# Altium integrated library ON Semi Schottky Diodes & Schottky Rectifiers.IntLib: 755 symbols (part 10 of 17)
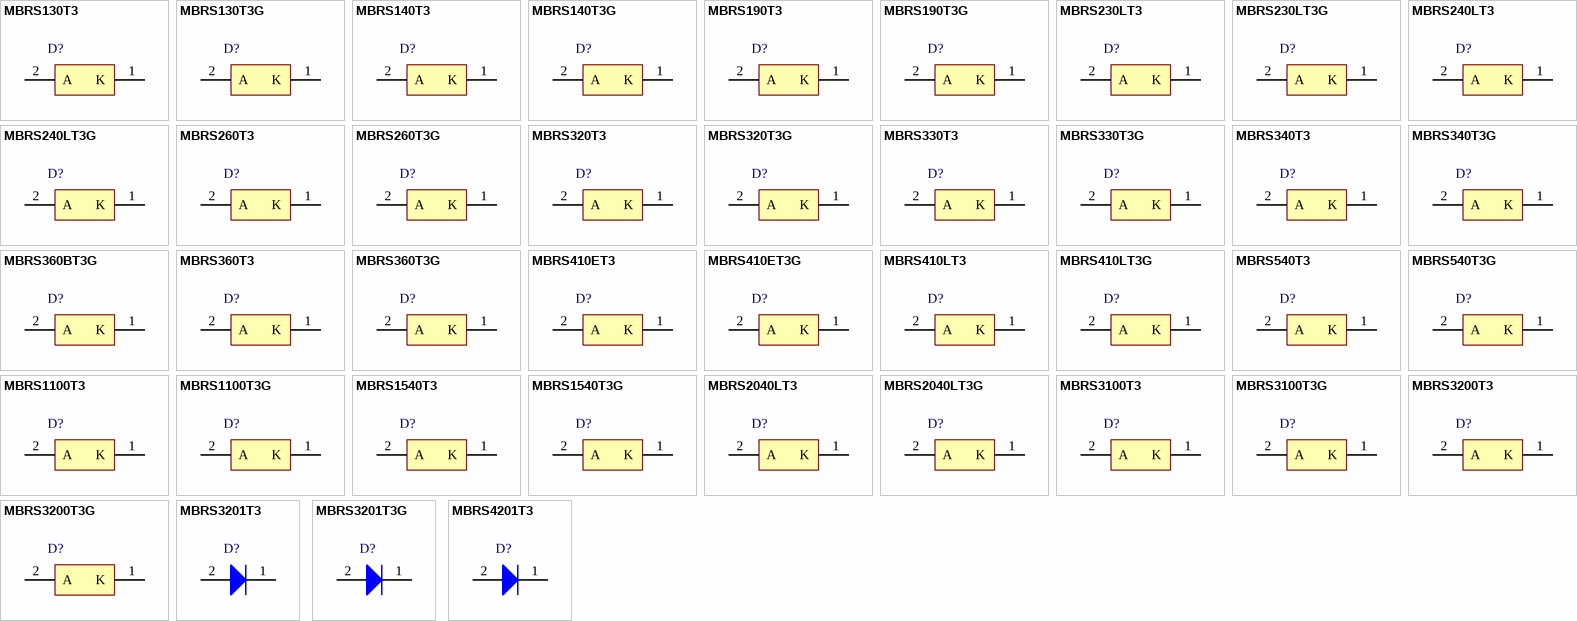
[diagram p28: symbols MBRS130T3 to MBRS4201T3]

## MBRS1540T3G
designator D?
Schottky Power Rectifier, 2-Pin SMB, Pb-Free, Tape and Reel; Manufacturer: On Semiconductor; PartNumber: MBRS1540T3G; Configuration: Single; IFSM Max (A): 40; DatasheetVersion: Rev. 3; PackageVersion: Rev. E, 08/2005; PackageReference: SMB-2-403A-03_E; PackageDescription: 2-Pin Small Molded Package, J-Bend Lead, Body 4.315 x 3.555 mm; Supplier 1: Digi-Key; Supplier Part Number 1: MBRS1540T3GOSTR-ND; Supplier 2: Digi-Key; Supplier Part Number 2: MBRS1540T3GOSCT-ND; Supplier 3: Digi-Key; Supplier Part Number 3: MBRS1540T3GOSDKR-ND; Supplier 4: Farnell; Supplier Part Number 4: 2372921; Supplier 5: Newark; Supplier Part Number 5: 10N9420; Supplier 6: Newark; Supplier Part Number 6: 98H0596; Supplier 7: Mouser; Supplier Part Number 7: 863-MBRS1540T3G; Packing: Tape and Reel; RoHS: TRUE; Mounting Technology: Surface Mount; ComponentLink1Description: Manufacturer URL; ComponentLink1URL: http://www.onsemi.com/; ComponentLink2Description: Datasheet; ComponentLink2URL: http://www.onsemi.cn/pub_link/Collateral/MBRS1540T3-D.PDF; ComponentLink3Description: Package Specification; ComponentLink3URL: http://www.onsemi.cn/pub_link/Collateral/MBRS1540T3-D.PDF
footprint ONSC-SMB-2-403A-03_E_V (Molded, 2-Leads, Body 4.57x3.81mm)
pins: 1 K, 2 A

## MBRS2040LT3
designator D?
Schottky Power Rectifier, 2-Pin SMB, Tape and Reel; Manufacturer: On Semiconductor; PartNumber: MBRS2040LT3; Configuration: Single; IFSM Max (A): 70; DatasheetVersion: Rev. 4; PackageVersion: Rev. H, 05/2011; PackageReference: SMB-2-403A-03_H; PackageDescription: 2-Pin Small Molded Package, J-Bend Lead, Body 4.33 x 3.625 mm; Supplier 1: Digi-Key; Supplier Part Number 1: MBRS2040LT3OSCT-ND; Supplier 2: Digi-Key; Supplier Part Number 2: MBRS2040LT3OSDKR-ND; Packing: Tape and Reel; RoHS: FALSE; Mounting Technology: Surface Mount; ComponentLink1Description: Manufacturer URL; ComponentLink1URL: http://www.onsemi.com/; ComponentLink2Description: Datasheet; ComponentLink2URL: http://www.onsemi.cn/pub_link/Collateral/MBRS2040LT3-D.PDF; ComponentLink3Description: Package Specification; ComponentLink3URL: http://www.onsemi.com/pub_link/Collateral/1SMB5913BT3-D.PDF
footprint ONSC-SMB-2-403A-03_H_V (Molded, 2-Leads, Body 4.6x3.95mm)
pins: 1 K, 2 A

## MBRS2040LT3G
designator D?
Schottky Power Rectifier, 2-Pin SMB, Pb-Free, Tape and Reel; Manufacturer: On Semiconductor; PartNumber: MBRS2040LT3G; Configuration: Single; IFSM Max (A): 70; DatasheetVersion: Rev. 4; PackageVersion: Rev. H, 05/2011; PackageReference: SMB-2-403A-03_H; PackageDescription: 2-Pin Small Molded Package, J-Bend Lead, Body 4.33 x 3.625 mm; Supplier 1: Digi-Key; Supplier Part Number 1: MBRS2040LT3GOSTR-ND; Supplier 2: Digi-Key; Supplier Part Number 2: MBRS2040LT3GOSCT-ND; Supplier 3: Digi-Key; Supplier Part Number 3: MBRS2040LT3GOSDKR-ND; Supplier 4: Farnell; Supplier Part Number 4: 1459072; Supplier 5: Farnell; Supplier Part Number 5: 1459072RL; Supplier 6: Farnell; Supplier Part Number 6: 2317674; Supplier 7: Newark; Supplier Part Number 7: 67R1314; Supplier 8: Newark; Supplier Part Number 8: 88H4677; Supplier 9: Mouser; Supplier Part Number 9: 863-MBRS2040LT3G; Packing: Tape and Reel; RoHS: TRUE; Mounting Technology: Surface Mount; ComponentLink1Description: Manufacturer URL; ComponentLink1URL: http://www.onsemi.com/; ComponentLink2Description: Datasheet; ComponentLink2URL: http://www.onsemi.cn/pub_link/Collateral/MBRS2040LT3-D.PDF; ComponentLink3Description: Package Specification; ComponentLink3URL: http://www.onsemi.com/pub_link/Collateral/1SMB5913BT3-D.PDF
footprint ONSC-SMB-2-403A-03_H_V (Molded, 2-Leads, Body 4.6x3.95mm)
pins: 1 K, 2 A

## MBRS3100T3
designator D?
Schottky Power Rectifier, 2-Pin SMC, Tape and Reel; Manufacturer: On Semiconductor; PartNumber: MBRS3100T3; Configuration: Single; IFSM Max (A): 130; DatasheetVersion: Rev. 4; PackageVersion: Rev. E, 08/2005; PackageReference: SMC-2-403-03; PackageDescription: 2-Pin Small Molded Package, J-Bend Lead, Body 5.845 x 6.855 mm; Supplier 1: Digi-Key; Supplier Part Number 1: MBRS3100T3OSTR-ND; Supplier 2: Digi-Key; Supplier Part Number 2: MBRS3100T3OSCT-ND; Packing: Tape and Reel; RoHS: FALSE; Mounting Technology: Surface Mount; ComponentLink1Description: Manufacturer URL; ComponentLink1URL: http://www.onsemi.com/; ComponentLink2Description: Datasheet; ComponentLink2URL: http://www.onsemi.cn/pub_link/Collateral/MBRS3100T3-D.PDF; ComponentLink3Description: Package Specification; ComponentLink3URL: http://www.onsemi.com/pub_link/Collateral/403-03.PDF
footprint ONSC-SMC-2-403-03_V (Molded, 2-Leads, Body 6.86x5.84mm)
pins: 1 K, 2 A

## MBRS3100T3G
designator D?
Schottky Power Rectifier, 2-Pin SMC, Pb-Free, Tape and Reel; Manufacturer: On Semiconductor; PartNumber: MBRS3100T3G; Configuration: Single; IFSM Max (A): 130; DatasheetVersion: Rev. 4; PackageVersion: Rev. E, 08/2005; PackageReference: SMC-2-403-03; PackageDescription: 2-Pin Small Molded Package, J-Bend Lead, Body 5.845 x 6.855 mm; Supplier 1: Digi-Key; Supplier Part Number 1: MBRS3100T3GOSTR-ND; Supplier 2: Digi-Key; Supplier Part Number 2: MBRS3100T3GOSCT-ND; Supplier 3: Digi-Key; Supplier Part Number 3: MBRS3100T3GOSDKR-ND; Supplier 4: Farnell; Supplier Part Number 4: 1459075RL; Supplier 5: Farnell; Supplier Part Number 5: 1459075; Supplier 6: Farnell; Supplier Part Number 6: 2317663; Supplier 7: Newark; Supplier Part Number 7: 67R1316; Supplier 8: Newark; Supplier Part Number 8: 45J0793; Supplier 9: Mouser; Supplier Part Number 9: 863-MBRS3100T3G; Packing: Tape and Reel; RoHS: TRUE; Mounting Technology: Surface Mount; ComponentLink1Description: Manufacturer URL; ComponentLink1URL: http://www.onsemi.com/; ComponentLink2Description: Datasheet; ComponentLink2URL: http://www.onsemi.cn/pub_link/Collateral/MBRS3100T3-D.PDF; ComponentLink3Description: Package Specification; ComponentLink3URL: http://www.onsemi.com/pub_link/Collateral/403-03.PDF
footprint ONSC-SMC-2-403-03_V (Molded, 2-Leads, Body 6.86x5.84mm)
pins: 1 K, 2 A

## MBRS3200T3
designator D?
Schottky Power Rectifier, 2-Pin SMB, Tape and Reel; Manufacturer: On Semiconductor; PartNumber: MBRS3200T3; Note: 0; Configuration: Single; IFSM Max (A): 100; DatasheetVersion: Rev. 6; PackageVersion: Rev. J, 07/2012; PackageReference: SMB-2-403A-03; PackageDescription: 2-Pin Small Molded Package, J-Bend Lead, Body 4.33 x 3.625 mm; Packing: Tape and Reel; RoHS: FALSE; Mounting Technology: Surface Mount; ComponentLink1Description: Manufacturer URL; ComponentLink1URL: http://www.onsemi.com/; ComponentLink2Description: Datasheet; ComponentLink2URL: http://www.onsemi.cn/pub_link/Collateral/MBRS3200T3-D.PDF; ComponentLink3Description: Package Specification; ComponentLink3URL: http://www.onsemi.com/pub_link/Collateral/403A-03.PDF
footprint ONSC-SMB-2-403A-03_V (Molded, 2-Leads, Body 4.6x3.95mm)
pins: 1 K, 2 A

## MBRS3200T3G
designator D?
Schottky Power Rectifier, 2-Pin SMB, Pb-Free, Tape and Reel; Manufacturer: On Semiconductor; PartNumber: MBRS3200T3G; Configuration: Single; IFSM Max (A): 100; DatasheetVersion: Rev. 6; PackageVersion: Rev. J, 07/2012; PackageReference: SMB-2-403A-03; PackageDescription: 2-Pin Small Molded Package, J-Bend Lead, Body 4.33 x 3.625 mm; Supplier 1: Digi-Key; Supplier Part Number 1: MBRS3200T3GOSTR-ND; Supplier 2: Digi-Key; Supplier Part Number 2: MBRS3200T3GOSCT-ND; Supplier 3: Digi-Key; Supplier Part Number 3: MBRS3200T3GOSDKR-ND; Supplier 4: Farnell; Supplier Part Number 4: 1838812; Supplier 5: Farnell; Supplier Part Number 5: 2317665; Supplier 6: Newark; Supplier Part Number 6: 80K4895; Supplier 7: Newark; Supplier Part Number 7: 45J0795; Supplier 8: Mouser; Supplier Part Number 8: 863-MBRS3200T3G; Packing: Tape and Reel; RoHS: TRUE; Mounting Technology: Surface Mount; ComponentLink1Description: Manufacturer URL; ComponentLink1URL: http://www.onsemi.com/; ComponentLink2Description: Datasheet; ComponentLink2URL: http://www.onsemi.cn/pub_link/Collateral/MBRS3200T3-D.PDF; ComponentLink3Description: Package Specification; ComponentLink3URL: http://www.onsemi.com/pub_link/Collateral/403A-03.PDF
footprint ONSC-SMB-2-403A-03_V (Molded, 2-Leads, Body 4.6x3.95mm)
pins: 1 K, 2 A

## MBRS3201T3
designator D?
200 V, 3 A Schottky Fast Soft-Recovery Power Rectifier, 2-Pin SMC, Tape and Reel; Manufacturer: On Semiconductor; PartNumber: MBRS3201T3; Configuration: Single; IFSM Max (A): 100; trr Max (ns): 35; DatasheetVersion: Rev. 3; PackageVersion: Rev. E, 08/2005; PackageReference: SMC-2-403-03; PackageDescription: 2-Pin Small Molded Package, J-Bend Lead, Body 5.845 x 6.855 mm; Supplier 1: Digi-Key; Supplier Part Number 1: MBRS3201T3-ND; Packing: Tape and Reel; RoHS: FALSE; Mounting Technology: Surface Mount; ComponentLink1Description: Manufacturer URL; ComponentLink1URL: http://www.onsemi.com/; ComponentLink2Description: Datasheet; ComponentLink2URL: http://www.onsemi.cn/pub_link/Collateral/MBRS3201T3-D.PDF; ComponentLink3Description: Package Specification; ComponentLink3URL: http://www.onsemi.com/pub_link/Collateral/403-03.PDF
footprint ONSC-SMC-2-403-03_V (Molded, 2-Leads, Body 6.86x5.84mm)
pins: 1 K, 2 A

## MBRS3201T3G
designator D?
200 V, 3 A Schottky Fast Soft-Recovery Power Rectifier, 2-Pin SMC, Pb-Free, Tape and Reel; Manufacturer: On Semiconductor; PartNumber: MBRS3201T3G; Configuration: Single; IFSM Max (A): 100; trr Max (ns): 35; DatasheetVersion: Rev. 3; PackageVersion: Rev. E, 08/2005; PackageReference: SMC-2-403-03; PackageDescription: 2-Pin Small Molded Package, J-Bend Lead, Body 5.845 x 6.855 mm; Supplier 1: Digi-Key; Supplier Part Number 1: MBRS3201T3GOSTR-ND; Supplier 2: Digi-Key; Supplier Part Number 2: MBRS3201T3GOSCT-ND; Supplier 3: Digi-Key; Supplier Part Number 3: MBRS3201T3GOSDKR-ND; Supplier 4: Farnell; Supplier Part Number 4: 2317427; Supplier 5: Farnell; Supplier Part Number 5: 2369343; Supplier 6: Newark; Supplier Part Number 6: 41K9991; Supplier 7: Newark; Supplier Part Number 7: 10N9422; Supplier 8: Mouser; Supplier Part Number 8: 863-MBRS3201T3G; Packing: Tape and Reel; RoHS: TRUE; Mounting Technology: Surface Mount; ComponentLink1Description: Manufacturer URL; ComponentLink1URL: http://www.onsemi.com/; ComponentLink2Description: Datasheet; ComponentLink2URL: http://www.onsemi.cn/pub_link/Collateral/MBRS3201T3-D.PDF; ComponentLink3Description: Package Specification; ComponentLink3URL: http://www.onsemi.com/pub_link/Collateral/403-03.PDF
footprint ONSC-SMC-2-403-03_V (Molded, 2-Leads, Body 6.86x5.84mm)
pins: 1 K, 2 A

## MBRS4201T3
designator D?
200 V, 4 A Schottky Fast Soft-Recovery Power Rectifier, 2-Pin SMC, Tape and Reel; Manufacturer: On Semiconductor; PartNumber: MBRS4201T3; Configuration: Single; IFSM Max (A): 100; trr Max (ns): 35; DatasheetVersion: Rev. 5; PackageVersion: Rev. E, 08/2005; PackageReference: SMC-2-403-03; PackageDescription: 2-Pin Small Molded Package, J-Bend Lead, Body 5.845 x 6.855 mm; Supplier 1: Digi-Key; Supplier Part Number 1: MBRS4201T3-ND; Packing: Tape and Reel; RoHS: FALSE; Mounting Technology: Surface Mount; ComponentLink1Description: Manufacturer URL; ComponentLink1URL: http://www.onsemi.com/; ComponentLink2Description: Datasheet; ComponentLink2URL: http://www.onsemi.cn/pub_link/Collateral/MBRS4201T3-D.PDF; ComponentLink3Description: Package Specification; ComponentLink3URL: http://www.onsemi.com/pub_link/Collateral/403-03.PDF
footprint ONSC-SMC-2-403-03_V (Molded, 2-Leads, Body 6.86x5.84mm)
pins: 1 K, 2 A

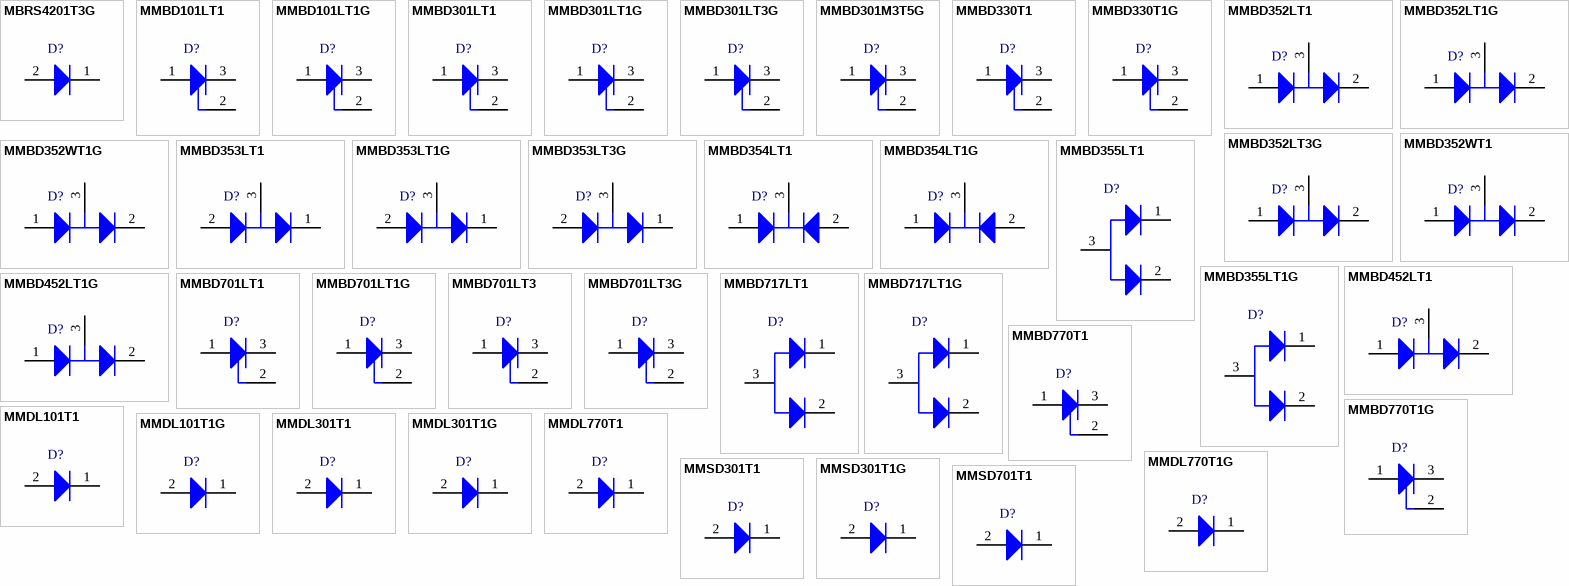
[diagram p11: symbols MBRS4201T3G to MMSD701T1]

## MBRS4201T3G
designator D?
200 V, 4 A Schottky Fast Soft-Recovery Power Rectifier, 2-Pin SMC, Pb-Free, Tape and Reel; Manufacturer: On Semiconductor; PartNumber: MBRS4201T3G; Configuration: Single; IFSM Max (A): 100; trr Max (ns): 35; DatasheetVersion: Rev. 5; PackageVersion: Rev. E, 08/2005; PackageReference: SMC-2-403-03; PackageDescription: 2-Pin Small Molded Package, J-Bend Lead, Body 5.845 x 6.855 mm; Supplier 1: Digi-Key; Supplier Part Number 1: MBRS4201T3GOSTR-ND; Supplier 2: Digi-Key; Supplier Part Number 2: MBRS4201T3GOSCT-ND; Supplier 3: Digi-Key; Supplier Part Number 3: MBRS4201T3GOSDKR-ND; Supplier 4: Farnell; Supplier Part Number 4: 1611500; Supplier 5: Farnell; Supplier Part Number 5: 1611500RL; Supplier 6: Newark; Supplier Part Number 6: 41K9992; Supplier 7: Mouser; Supplier Part Number 7: 863-MBRS4201T3G; Packing: Tape and Reel; RoHS: TRUE; Mounting Technology: Surface Mount; ComponentLink1Description: Manufacturer URL; ComponentLink1URL: http://www.onsemi.com/; ComponentLink2Description: Datasheet; ComponentLink2URL: http://www.onsemi.cn/pub_link/Collateral/MBRS4201T3-D.PDF; ComponentLink3Description: Package Specification; ComponentLink3URL: http://www.onsemi.com/pub_link/Collateral/403-03.PDF
footprint ONSC-SMC-2-403-03_V (Molded, 2-Leads, Body 6.86x5.84mm)
pins: 1 K, 2 A

## MMBD101LT1
designator D?
Schottky Barrier Diode, 3-Pin SOT-23, Tape and Reel; Manufacturer: On Semiconductor; PartNumber: MMBD101LT1; Configuration: Single; DatasheetVersion: Rev. 3; PackageVersion: Rev. AP, 11/2009; PackageReference: SOT-23-3-318-08; PackageDescription: 3-Pin Small Outline Transistor, Body 2.92 x 1.3 mm, Pitch 0.95 mm; Supplier 1: Digi-Key; Supplier Part Number 1: MMBD101LT1OSCT-ND; Supplier 2: Digi-Key; Supplier Part Number 2: MMBD101LT1OSDKR-ND; Packing: Tape and Reel; RoHS: FALSE; Mounting Technology: Surface Mount; ComponentLink1Description: Manufacturer URL; ComponentLink1URL: http://www.onsemi.com/; ComponentLink2Description: Datasheet; ComponentLink2URL: http://www.onsemi.cn/pub_link/Collateral/MBD101-D.PDF; ComponentLink3Description: Package Specification; ComponentLink3URL: http://www.onsemi.cn/pub_link/Collateral/318-08.PDF
footprint ONSC-SOT-23-3-318-08_V (SOT23, 3-Leads, Body 2.92x1.3mm, Pitch 0.95mm)
pins: 1 A, 2 NC, 3 K

## MMBD101LT1G
designator D?
Schottky Barrier Diode, 3-Pin SOT-23, Pb-Free, Tape and Reel; Manufacturer: On Semiconductor; PartNumber: MMBD101LT1G; Configuration: Single; DatasheetVersion: Rev. 3; PackageVersion: Rev. AP, 11/2009; PackageReference: SOT-23-3-318-08; PackageDescription: 3-Pin Small Outline Transistor, Body 2.92 x 1.3 mm, Pitch 0.95 mm; Supplier 1: Digi-Key; Supplier Part Number 1: MMBD101LT1GOSTR-ND; Supplier 2: Digi-Key; Supplier Part Number 2: MMBD101LT1GOSCT-ND; Supplier 3: Digi-Key; Supplier Part Number 3: MMBD101LT1GOSDKR-ND; Supplier 4: Farnell; Supplier Part Number 4: 1147918; Supplier 5: Newark; Supplier Part Number 5: 88H4769; Supplier 6: Mouser; Supplier Part Number 6: 863-MMBD101LT1G; Packing: Tape and Reel; RoHS: TRUE; Mounting Technology: Surface Mount; ComponentLink1Description: Manufacturer URL; ComponentLink1URL: http://www.onsemi.com/; ComponentLink2Description: Datasheet; ComponentLink2URL: http://www.onsemi.cn/pub_link/Collateral/MBD101-D.PDF; ComponentLink3Description: Package Specification; ComponentLink3URL: http://www.onsemi.cn/pub_link/Collateral/318-08.PDF
footprint ONSC-SOT-23-3-318-08_V (SOT23, 3-Leads, Body 2.92x1.3mm, Pitch 0.95mm)
pins: 1 A, 2 NC, 3 K

## MMBD301LT1
designator D?
Silicon Hot-Carrier Diode, Schottky Barrier Diode, 3-Pin SOT-23, Tape and Reel; Manufacturer: On Semiconductor; PartNumber: MMBD301LT1; Configuration: Single; DatasheetVersion: Rev. 7; PackageVersion: Rev. AP, 11/2009; PackageReference: SOT-23-3-318-08; PackageDescription: 3-Pin Small Outline Transistor, Body 2.92 x 1.3 mm, Pitch 0.95 mm; Supplier 1: Digi-Key; Supplier Part Number 1: MMBD301LT1OSCT-ND; Packing: Tape and Reel; RoHS: FALSE; Mounting Technology: Surface Mount; ComponentLink1Description: Manufacturer URL; ComponentLink1URL: http://www.onsemi.com/; ComponentLink2Description: Datasheet; ComponentLink2URL: http://www.onsemi.cn/pub_link/Collateral/MBD301-D.PDF; ComponentLink3Description: Package Specification; ComponentLink3URL: http://www.onsemi.cn/pub_link/Collateral/318-08.PDF
footprint ONSC-SOT-23-3-318-08_V (SOT23, 3-Leads, Body 2.92x1.3mm, Pitch 0.95mm)
pins: 1 A, 2 NC, 3 K

## MMBD301LT1G
designator D?
Silicon Hot-Carrier Diode, Schottky Barrier Diode, 3-Pin SOT-23, Pb-Free, Tape and Reel; Manufacturer: On Semiconductor; PartNumber: MMBD301LT1G; Configuration: Single; DatasheetVersion: Rev. 7; PackageVersion: Rev. AP, 11/2009; PackageReference: SOT-23-3-318-08; PackageDescription: 3-Pin Small Outline Transistor, Body 2.92 x 1.3 mm, Pitch 0.95 mm; Supplier 1: Digi-Key; Supplier Part Number 1: MMBD301LT1GOSTR-ND; Supplier 2: Digi-Key; Supplier Part Number 2: MMBD301LT1GOSCT-ND; Supplier 3: Digi-Key; Supplier Part Number 3: MMBD301LT1GOSDKR-ND; Supplier 4: Farnell; Supplier Part Number 4: 2317676; Supplier 5: Farnell; Supplier Part Number 5: 1224772; Supplier 6: Newark; Supplier Part Number 6: 88H4772; Supplier 7: Newark; Supplier Part Number 7: 85W2813; Supplier 8: Mouser; Supplier Part Number 8: 863-MMBD301LT1G; Packing: Tape and Reel; RoHS: TRUE; Mounting Technology: Surface Mount; ComponentLink1Description: Manufacturer URL; ComponentLink1URL: http://www.onsemi.com/; ComponentLink2Description: Datasheet; ComponentLink2URL: http://www.onsemi.cn/pub_link/Collateral/MBD301-D.PDF; ComponentLink3Description: Package Specification; ComponentLink3URL: http://www.onsemi.cn/pub_link/Collateral/318-08.PDF
footprint ONSC-SOT-23-3-318-08_V (SOT23, 3-Leads, Body 2.92x1.3mm, Pitch 0.95mm)
pins: 1 A, 2 NC, 3 K

## MMBD301LT3G
designator D?
Silicon Hot-Carrier Diode, Schottky Barrier Diode, 3-Pin SOT-23, Pb-Free, Tape and Reel; Manufacturer: On Semiconductor; PartNumber: MMBD301LT3G; Configuration: Single; DatasheetVersion: Rev. 7; PackageVersion: Rev. AP, 11/2009; PackageReference: SOT-23-3-318-08; PackageDescription: 3-Pin Small Outline Transistor, Body 2.92 x 1.3 mm, Pitch 0.95 mm; Supplier 1: Digi-Key; Supplier Part Number 1: MMBD301LT3G-ND; Supplier 2: Newark; Supplier Part Number 2: 42K1326; Supplier 3: Mouser; Supplier Part Number 3: 863-MMBD301LT3G; Packing: Tape and Reel; RoHS: TRUE; Mounting Technology: Surface Mount; ComponentLink1Description: Manufacturer URL; ComponentLink1URL: http://www.onsemi.com/; ComponentLink2Description: Datasheet; ComponentLink2URL: http://www.onsemi.cn/pub_link/Collateral/MBD301-D.PDF; ComponentLink3Description: Package Specification; ComponentLink3URL: http://www.onsemi.cn/pub_link/Collateral/318-08.PDF
footprint ONSC-SOT-23-3-318-08_V (SOT23, 3-Leads, Body 2.92x1.3mm, Pitch 0.95mm)
pins: 1 A, 2 NC, 3 K

## MMBD301M3T5G
designator D?
Silicon Hot-Carrier Diode, Schottky Barrier Diode, 3-Pin SOT-723, Pb-Free, Tape and Reel; Manufacturer: On Semiconductor; PartNumber: MMBD301M3T5G; Configuration: Single; DatasheetVersion: Rev. 1; PackageVersion: Rev. D, 08/2009; PackageReference: SOT-723-3-631AA-01; PackageDescription: 3-Pin Small Outline Transistor, Body 1.2 x 0.8 mm, Pitch 0.4 mm; Supplier 1: Digi-Key; Supplier Part Number 1: MMBD301M3T5G-ND; Supplier 2: Mouser; Supplier Part Number 2: 863-MMBD301M3T5G; Packing: Tape and Reel; RoHS: TRUE; Mounting Technology: Surface Mount; ComponentLink1Description: Manufacturer URL; ComponentLink1URL: http://www.onsemi.com/; ComponentLink2Description: Datasheet; ComponentLink2URL: http://www.onsemi.cn/pub_link/Collateral/MMBD301M3-D.PDF; ComponentLink3Description: Package Specification; ComponentLink3URL: http://www.onsemi.com/pub_link/Collateral/631AA.PDF
footprint ONSC-SOT-723-3-631AA-01_V (SOT223, 3-Leads, Body 1.2x0.8mm, Pitch 0.4mm)
pins: 1 A, 2 NC, 3 K

## MMBD330T1
designator D?
Schottky Barrier Diode, 3-Pin SOT-323, Tape and Reel; Manufacturer: On Semiconductor; PartNumber: MMBD330T1; Note: 0; Configuration: Single; IFSM Max (A): 1; DatasheetVersion: Rev. 6; PackageVersion: Rev. N, 11/2008; PackageReference: SOT-323-3-419-04; PackageDescription: 3-Pin Small Outline Transistor, Body 2 x 1.25 mm, Pitch 0.65 mm; Packing: Tape and Reel; RoHS: FALSE; Mounting Technology: Surface Mount; ComponentLink1Description: Manufacturer URL; ComponentLink1URL: http://www.onsemi.com/; ComponentLink2Description: Datasheet; ComponentLink2URL: http://www.onsemi.cn/pub_link/Collateral/MMBD330T1-D.PDF; ComponentLink3Description: Package Specification; ComponentLink3URL: http://www.onsemi.com/pub_link/Collateral/419-04.PDF
footprint ONSC-SOT-323-3-419-04_V (SOT23, 3-Leads, Body 2x1.25mm, Pitch 0.65mm)
pins: 1 A, 2 NC, 3 K

## MMBD330T1G
designator D?
Schottky Barrier Diode, 3-Pin SOT-323, Pb-Free, Tape and Reel; Manufacturer: On Semiconductor; PartNumber: MMBD330T1G; Configuration: Single; IFSM Max (A): 1; DatasheetVersion: Rev. 6; PackageVersion: Rev. N, 11/2008; PackageReference: SOT-323-3-419-04; PackageDescription: 3-Pin Small Outline Transistor, Body 2 x 1.25 mm, Pitch 0.65 mm; Supplier 1: Digi-Key; Supplier Part Number 1: MMBD330T1GOSTR-ND; Supplier 2: Digi-Key; Supplier Part Number 2: MMBD330T1GOSCT-ND; Supplier 3: Digi-Key; Supplier Part Number 3: MMBD330T1GOSDKR-ND; Supplier 4: Farnell; Supplier Part Number 4: 1861216; Supplier 5: Newark; Supplier Part Number 5: 09R9442; Supplier 6: Mouser; Supplier Part Number 6: 863-MMBD330T1G; Packing: Tape and Reel; RoHS: TRUE; Mounting Technology: Surface Mount; ComponentLink1Description: Manufacturer URL; ComponentLink1URL: http://www.onsemi.com/; ComponentLink2Description: Datasheet; ComponentLink2URL: http://www.onsemi.cn/pub_link/Collateral/MMBD330T1-D.PDF; ComponentLink3Description: Package Specification; ComponentLink3URL: http://www.onsemi.com/pub_link/Collateral/419-04.PDF
footprint ONSC-SOT-323-3-419-04_V (SOT23, 3-Leads, Body 2x1.25mm, Pitch 0.65mm)
pins: 1 A, 2 NC, 3 K

## MMBD352LT1
designator D?
Dual Hot Carrier Mixer Diodes, 3-Pin SOT-23, Tape and Reel; Manufacturer: On Semiconductor; PartNumber: MMBD352LT1; DatasheetVersion: Rev. 8; PackageVersion: Rev. AP, 11/2009; PackageReference: SOT-23-3-318-08; PackageDescription: 3-Pin Small Outline Transistor, Body 2.92 x 1.3 mm, Pitch 0.95 mm; Supplier 1: Digi-Key; Supplier Part Number 1: MMBD352LT1OSCT-ND; Configuration: Dual; Packing: Tape and Reel; RoHS: FALSE; Mounting Technology: Surface Mount; ComponentLink1Description: Manufacturer URL; ComponentLink1URL: http://www.onsemi.com/; ComponentLink2Description: Datasheet; ComponentLink2URL: http://www.onsemi.cn/pub_link/Collateral/MMBD352LT1-D.PDF; ComponentLink3Description: Package Specification; ComponentLink3URL: http://www.onsemi.cn/pub_link/Collateral/318-08.PDF
footprint ONSC-SOT-23-3-318-08_V (SOT23, 3-Leads, Body 2.92x1.3mm, Pitch 0.95mm)
pins: 1 A, 2 K, 3 K/A

## MMBD352LT1G
designator D?
Dual Hot Carrier Mixer Diodes, 3-Pin SOT-23, Pb-Free, Tape and Reel; Manufacturer: On Semiconductor; PartNumber: MMBD352LT1G; DatasheetVersion: Rev. 8; PackageVersion: Rev. AP, 11/2009; PackageReference: SOT-23-3-318-08; PackageDescription: 3-Pin Small Outline Transistor, Body 2.92 x 1.3 mm, Pitch 0.95 mm; Supplier 1: Digi-Key; Supplier Part Number 1: MMBD352LT1GOSTR-ND; Supplier 2: Digi-Key; Supplier Part Number 2: MMBD352LT1GOSCT-ND; Supplier 3: Digi-Key; Supplier Part Number 3: MMBD352LT1GOSDKR-ND; Supplier 4: Farnell; Supplier Part Number 4: 1136158; Supplier 5: Newark; Supplier Part Number 5: 45J1510; Supplier 6: Mouser; Supplier Part Number 6: 863-MMBD352LT1G; Configuration: Dual; Packing: Tape and Reel; RoHS: TRUE; Mounting Technology: Surface Mount; ComponentLink1Description: Manufacturer URL; ComponentLink1URL: http://www.onsemi.com/; ComponentLink2Description: Datasheet; ComponentLink2URL: http://www.onsemi.cn/pub_link/Collateral/MMBD352LT1-D.PDF; ComponentLink3Description: Package Specification; ComponentLink3URL: http://www.onsemi.cn/pub_link/Collateral/318-08.PDF
footprint ONSC-SOT-23-3-318-08_V (SOT23, 3-Leads, Body 2.92x1.3mm, Pitch 0.95mm)
pins: 1 A, 2 K, 3 K/A

## MMBD352LT3G
designator D?
Dual Hot Carrier Mixer Diodes, 3-Pin SOT-23, Pb-Free, Tape and Reel; Manufacturer: On Semiconductor; PartNumber: MMBD352LT3G; DatasheetVersion: Rev. 8; PackageVersion: Rev. AP, 11/2009; PackageReference: SOT-23-3-318-08; PackageDescription: 3-Pin Small Outline Transistor, Body 2.92 x 1.3 mm, Pitch 0.95 mm; Supplier 1: Mouser; Supplier Part Number 1: 863-MMBD352LT3G; Configuration: Dual; Packing: Tape and Reel; RoHS: TRUE; Mounting Technology: Surface Mount; ComponentLink1Description: Manufacturer URL; ComponentLink1URL: http://www.onsemi.com/; ComponentLink2Description: Datasheet; ComponentLink2URL: http://www.onsemi.cn/pub_link/Collateral/MMBD352LT1-D.PDF; ComponentLink3Description: Package Specification; ComponentLink3URL: http://www.onsemi.cn/pub_link/Collateral/318-08.PDF
footprint ONSC-SOT-23-3-318-08_V (SOT23, 3-Leads, Body 2.92x1.3mm, Pitch 0.95mm)
pins: 1 A, 2 K, 3 K/A

## MMBD352WT1
designator D?
Dual Schottky Barrier Diodes, 3-Pin SOT-323, Tape and Reel; Manufacturer: On Semiconductor; PartNumber: MMBD352WT1; Note: 0; DatasheetVersion: Rev. 5; PackageVersion: Rev. N, 11/2008; PackageReference: SOT-323-3-419-04; PackageDescription: 3-Pin Small Outline Transistor, Body 2 x 1.25 mm, Pitch 0.65 mm; Configuration: Dual; Packing: Tape and Reel; RoHS: FALSE; Mounting Technology: Surface Mount; ComponentLink1Description: Manufacturer URL; ComponentLink1URL: http://www.onsemi.com/; ComponentLink2Description: Datasheet; ComponentLink2URL: http://www.onsemi.cn/pub_link/Collateral/MMBD352WT1-D.PDF; ComponentLink3Description: Package Specification; ComponentLink3URL: http://www.onsemi.com/pub_link/Collateral/419-04.PDF
footprint ONSC-SOT-323-3-419-04_V (SOT23, 3-Leads, Body 2x1.25mm, Pitch 0.65mm)
pins: 1 A, 2 K, 3 K/A

## MMBD352WT1G
designator D?
Dual Schottky Barrier Diodes, 3-Pin SOT-323, Pb-Free, Tape and Reel; Manufacturer: On Semiconductor; PartNumber: MMBD352WT1G; DatasheetVersion: Rev. 5; PackageVersion: Rev. N, 11/2008; PackageReference: SOT-323-3-419-04; PackageDescription: 3-Pin Small Outline Transistor, Body 2 x 1.25 mm, Pitch 0.65 mm; Supplier 1: Digi-Key; Supplier Part Number 1: MMBD352WT1G-ND; Supplier 2: Newark; Supplier Part Number 2: 45J1512; Supplier 3: Mouser; Supplier Part Number 3: 863-MMBD352WT1G; Configuration: Dual; Packing: Tape and Reel; RoHS: TRUE; Mounting Technology: Surface Mount; ComponentLink1Description: Manufacturer URL; ComponentLink1URL: http://www.onsemi.com/; ComponentLink2Description: Datasheet; ComponentLink2URL: http://www.onsemi.cn/pub_link/Collateral/MMBD352WT1-D.PDF; ComponentLink3Description: Package Specification; ComponentLink3URL: http://www.onsemi.com/pub_link/Collateral/419-04.PDF
footprint ONSC-SOT-323-3-419-04_V (SOT23, 3-Leads, Body 2x1.25mm, Pitch 0.65mm)
pins: 1 A, 2 K, 3 K/A

## MMBD353LT1
designator D?
Dual Hot Carrier Mixer Diodes, 3-Pin SOT-23, Tape and Reel; Manufacturer: On Semiconductor; PartNumber: MMBD353LT1; DatasheetVersion: Rev. 8; PackageVersion: Rev. AP, 11/2009; PackageReference: SOT-23-3-318-08; PackageDescription: 3-Pin Small Outline Transistor, Body 2.92 x 1.3 mm, Pitch 0.95 mm; Supplier 1: Digi-Key; Supplier Part Number 1: MMBD353LT1OSTR-ND; Supplier 2: Digi-Key; Supplier Part Number 2: MMBD353LT1OSCT-ND; Configuration: Dual; Packing: Tape and Reel; RoHS: FALSE; Mounting Technology: Surface Mount; ComponentLink1Description: Manufacturer URL; ComponentLink1URL: http://www.onsemi.com/; ComponentLink2Description: Datasheet; ComponentLink2URL: http://www.onsemi.cn/pub_link/Collateral/MMBD352LT1-D.PDF; ComponentLink3Description: Package Specification; ComponentLink3URL: http://www.onsemi.cn/pub_link/Collateral/318-08.PDF
footprint ONSC-SOT-23-3-318-08_V (SOT23, 3-Leads, Body 2.92x1.3mm, Pitch 0.95mm)
pins: 1 K, 2 A, 3 K/A

## MMBD353LT1G
designator D?
Dual Hot Carrier Mixer Diodes, 3-Pin SOT-23, Pb-Free, Tape and Reel; Manufacturer: On Semiconductor; PartNumber: MMBD353LT1G; DatasheetVersion: Rev. 8; PackageVersion: Rev. AP, 11/2009; PackageReference: SOT-23-3-318-08; PackageDescription: 3-Pin Small Outline Transistor, Body 2.92 x 1.3 mm, Pitch 0.95 mm; Supplier 1: Digi-Key; Supplier Part Number 1: MMBD353LT1GOSTR-ND; Supplier 2: Digi-Key; Supplier Part Number 2: MMBD353LT1GOSCT-ND; Supplier 3: Digi-Key; Supplier Part Number 3: MMBD353LT1GOSDKR-ND; Supplier 4: Newark; Supplier Part Number 4: 45J1513; Supplier 5: Mouser; Supplier Part Number 5: 863-MMBD353LT1G; Configuration: Dual; Packing: Tape and Reel; RoHS: TRUE; Mounting Technology: Surface Mount; ComponentLink1Description: Manufacturer URL; ComponentLink1URL: http://www.onsemi.com/; ComponentLink2Description: Datasheet; ComponentLink2URL: http://www.onsemi.cn/pub_link/Collateral/MMBD352LT1-D.PDF; ComponentLink3Description: Package Specification; ComponentLink3URL: http://www.onsemi.cn/pub_link/Collateral/318-08.PDF
footprint ONSC-SOT-23-3-318-08_V (SOT23, 3-Leads, Body 2.92x1.3mm, Pitch 0.95mm)
pins: 1 K, 2 A, 3 K/A

## MMBD353LT3G
designator D?
Dual Hot Carrier Mixer Diodes, 3-Pin SOT-23, Pb-Free, Tape and Reel; Manufacturer: On Semiconductor; PartNumber: MMBD353LT3G; DatasheetVersion: Rev. 8; PackageVersion: Rev. AP, 11/2009; PackageReference: SOT-23-3-318-08; PackageDescription: 3-Pin Small Outline Transistor, Body 2.92 x 1.3 mm, Pitch 0.95 mm; Supplier 1: Mouser; Supplier Part Number 1: 863-MMBD353LT3G; Configuration: Dual; Packing: Tape and Reel; RoHS: TRUE; Mounting Technology: Surface Mount; ComponentLink1Description: Manufacturer URL; ComponentLink1URL: http://www.onsemi.com/; ComponentLink2Description: Datasheet; ComponentLink2URL: http://www.onsemi.cn/pub_link/Collateral/MMBD352LT1-D.PDF; ComponentLink3Description: Package Specification; ComponentLink3URL: http://www.onsemi.cn/pub_link/Collateral/318-08.PDF
footprint ONSC-SOT-23-3-318-08_V (SOT23, 3-Leads, Body 2.92x1.3mm, Pitch 0.95mm)
pins: 1 K, 2 A, 3 K/A

## MMBD354LT1
designator D?
Dual Hot Carrier Mixer Diodes, 3-Pin SOT-23, Tape and Reel; Manufacturer: On Semiconductor; PartNumber: MMBD354LT1; Configuration: Common Cathode; DatasheetVersion: Rev. 8; PackageVersion: Rev. AP, 11/2009; PackageReference: SOT-23-3-318-08; PackageDescription: 3-Pin Small Outline Transistor, Body 2.92 x 1.3 mm, Pitch 0.95 mm; Supplier 1: Digi-Key; Supplier Part Number 1: MMBD354LT1OSCT-ND; Packing: Tape and Reel; RoHS: FALSE; Mounting Technology: Surface Mount; ComponentLink1Description: Manufacturer URL; ComponentLink1URL: http://www.onsemi.com/; ComponentLink2Description: Datasheet; ComponentLink2URL: http://www.onsemi.cn/pub_link/Collateral/MMBD352LT1-D.PDF; ComponentLink3Description: Package Specification; ComponentLink3URL: http://www.onsemi.cn/pub_link/Collateral/318-08.PDF
footprint ONSC-SOT-23-3-318-08_V (SOT23, 3-Leads, Body 2.92x1.3mm, Pitch 0.95mm)
pins: 1 A1, 2 A2, 3 K

## MMBD354LT1G
designator D?
Dual Hot Carrier Mixer Diodes, 3-Pin SOT-23, Pb-Free, Tape and Reel; Manufacturer: On Semiconductor; PartNumber: MMBD354LT1G; Configuration: Common Cathode; DatasheetVersion: Rev. 8; PackageVersion: Rev. AP, 11/2009; PackageReference: SOT-23-3-318-08; PackageDescription: 3-Pin Small Outline Transistor, Body 2.92 x 1.3 mm, Pitch 0.95 mm; Supplier 1: Digi-Key; Supplier Part Number 1: MMBD354LT1GOSTR-ND; Supplier 2: Digi-Key; Supplier Part Number 2: MMBD354LT1GOSCT-ND; Supplier 3: Digi-Key; Supplier Part Number 3: MMBD354LT1GOSDKR-ND; Supplier 4: Farnell; Supplier Part Number 4: 2317687; Supplier 5: Farnell; Supplier Part Number 5: 2317397; Supplier 6: Newark; Supplier Part Number 6: 45J1514; Supplier 7: Newark; Supplier Part Number 7: 85W2814; Supplier 8: Mouser; Supplier Part Number 8: 863-MMBD354LT1G; Packing: Tape and Reel; RoHS: TRUE; Mounting Technology: Surface Mount; ComponentLink1Description: Manufacturer URL; ComponentLink1URL: http://www.onsemi.com/; ComponentLink2Description: Datasheet; ComponentLink2URL: http://www.onsemi.cn/pub_link/Collateral/MMBD352LT1-D.PDF; ComponentLink3Description: Package Specification; ComponentLink3URL: http://www.onsemi.cn/pub_link/Collateral/318-08.PDF
footprint ONSC-SOT-23-3-318-08_V (SOT23, 3-Leads, Body 2.92x1.3mm, Pitch 0.95mm)
pins: 1 A1, 2 A2, 3 K

## MMBD355LT1
designator D?
Dual Hot Carrier Mixer Diodes, 3-Pin SOT-23, Tape and Reel; Manufacturer: On Semiconductor; PartNumber: MMBD355LT1; Configuration: Common Anode; DatasheetVersion: Rev. 8; PackageVersion: Rev. AP, 11/2009; PackageReference: SOT-23-3-318-08; PackageDescription: 3-Pin Small Outline Transistor, Body 2.92 x 1.3 mm, Pitch 0.95 mm; Supplier 1: Digi-Key; Supplier Part Number 1: MMBD355LT1-ND; Packing: Tape and Reel; RoHS: FALSE; Mounting Technology: Surface Mount; ComponentLink1Description: Manufacturer URL; ComponentLink1URL: http://www.onsemi.com/; ComponentLink2Description: Datasheet; ComponentLink2URL: http://www.onsemi.cn/pub_link/Collateral/MMBD352LT1-D.PDF; ComponentLink3Description: Package Specification; ComponentLink3URL: http://www.onsemi.cn/pub_link/Collateral/318-08.PDF
footprint ONSC-SOT-23-3-318-08_V (SOT23, 3-Leads, Body 2.92x1.3mm, Pitch 0.95mm)
pins: 1 K1, 2 K2, 3 A

## MMBD355LT1G
designator D?
Dual Hot Carrier Mixer Diodes, 3-Pin SOT-23, Pb-Free, Tape and Reel; Manufacturer: On Semiconductor; PartNumber: MMBD355LT1G; Configuration: Common Anode; DatasheetVersion: Rev. 8; PackageVersion: Rev. AP, 11/2009; PackageReference: SOT-23-3-318-08; PackageDescription: 3-Pin Small Outline Transistor, Body 2.92 x 1.3 mm, Pitch 0.95 mm; Supplier 1: Digi-Key; Supplier Part Number 1: MMBD355LT1GOSTR-ND; Supplier 2: Digi-Key; Supplier Part Number 2: MMBD355LT1GOSCT-ND; Supplier 3: Mouser; Supplier Part Number 3: 863-MMBD355LT1G; Packing: Tape and Reel; RoHS: TRUE; Mounting Technology: Surface Mount; ComponentLink1Description: Manufacturer URL; ComponentLink1URL: http://www.onsemi.com/; ComponentLink2Description: Datasheet; ComponentLink2URL: http://www.onsemi.cn/pub_link/Collateral/MMBD352LT1-D.PDF; ComponentLink3Description: Package Specification; ComponentLink3URL: http://www.onsemi.cn/pub_link/Collateral/318-08.PDF
footprint ONSC-SOT-23-3-318-08_V (SOT23, 3-Leads, Body 2.92x1.3mm, Pitch 0.95mm)
pins: 1 K1, 2 K2, 3 A

## MMBD452LT1
designator D?
Dual Hot-Carrier Diodes, Schottky Barrier Diode, 3-Pin SOT-23, Tape and Reel; Manufacturer: On Semiconductor; PartNumber: MMBD452LT1; Note: 0; DatasheetVersion: Rev. 4; PackageVersion: Rev. AP, 11/2009; PackageReference: SOT-23-3-318-08; PackageDescription: 3-Pin Small Outline Transistor, Body 2.92 x 1.3 mm, Pitch 0.95 mm; Configuration: Dual; Packing: Tape and Reel; RoHS: FALSE; Mounting Technology: Surface Mount; ComponentLink1Description: Manufacturer URL; ComponentLink1URL: http://www.onsemi.com/; ComponentLink2Description: Datasheet; ComponentLink2URL: http://www.onsemi.cn/pub_link/Collateral/MMBD452LT1-D.PDF; ComponentLink3Description: Package Specification; ComponentLink3URL: http://www.onsemi.cn/pub_link/Collateral/318-08.PDF
footprint ONSC-SOT-23-3-318-08_V (SOT23, 3-Leads, Body 2.92x1.3mm, Pitch 0.95mm)
pins: 1 A, 2 K, 3 K/A

## MMBD452LT1G
designator D?
Dual Hot-Carrier Diodes, Schottky Barrier Diode, 3-Pin SOT-23, Pb-Free, Tape and Reel; Manufacturer: On Semiconductor; PartNumber: MMBD452LT1G; DatasheetVersion: Rev. 4; PackageVersion: Rev. AP, 11/2009; PackageReference: SOT-23-3-318-08; PackageDescription: 3-Pin Small Outline Transistor, Body 2.92 x 1.3 mm, Pitch 0.95 mm; Supplier 1: Digi-Key; Supplier Part Number 1: MMBD452LT1GOSTR-ND; Supplier 2: Digi-Key; Supplier Part Number 2: MMBD452LT1GOSCT-ND; Supplier 3: Digi-Key; Supplier Part Number 3: MMBD452LT1GOSDKR-ND; Supplier 4: Newark; Supplier Part Number 4: 26K4532; Supplier 5: Mouser; Supplier Part Number 5: 863-MMBD452LT1G; Configuration: Dual; Packing: Tape and Reel; RoHS: TRUE; Mounting Technology: Surface Mount; ComponentLink1Description: Manufacturer URL; ComponentLink1URL: http://www.onsemi.com/; ComponentLink2Description: Datasheet; ComponentLink2URL: http://www.onsemi.cn/pub_link/Collateral/MMBD452LT1-D.PDF; ComponentLink3Description: Package Specification; ComponentLink3URL: http://www.onsemi.cn/pub_link/Collateral/318-08.PDF
footprint ONSC-SOT-23-3-318-08_V (SOT23, 3-Leads, Body 2.92x1.3mm, Pitch 0.95mm)
pins: 1 A, 2 K, 3 K/A

## MMBD701LT1
designator D?
Silicon Hot-Carrier Diode, Schottky Barrier Diode, 3-Pin SOT-23, Tape and Reel; Manufacturer: On Semiconductor; PartNumber: MMBD701LT1; Configuration: Single; DatasheetVersion: Rev. 6; PackageVersion: Rev. AP, 11/2009; PackageReference: SOT-23-3-318-08; PackageDescription: 3-Pin Small Outline Transistor, Body 2.92 x 1.3 mm, Pitch 0.95 mm; Supplier 1: Digi-Key; Supplier Part Number 1: MMBD701LT1OSCT-ND; Packing: Tape and Reel; RoHS: FALSE; Mounting Technology: Surface Mount; ComponentLink1Description: Manufacturer URL; ComponentLink1URL: http://www.onsemi.com/; ComponentLink2Description: Datasheet; ComponentLink2URL: http://www.onsemi.cn/pub_link/Collateral/MBD701-D.PDF; ComponentLink3Description: Package Specification; ComponentLink3URL: http://www.onsemi.cn/pub_link/Collateral/318-08.PDF
footprint ONSC-SOT-23-3-318-08_V (SOT23, 3-Leads, Body 2.92x1.3mm, Pitch 0.95mm)
pins: 1 A, 2 NC, 3 K

## MMBD701LT1G
designator D?
Silicon Hot-Carrier Diode, Schottky Barrier Diode, 3-Pin SOT-23, Pb-Free, Tape and Reel; Manufacturer: On Semiconductor; PartNumber: MMBD701LT1G; Configuration: Single; DatasheetVersion: Rev. 6; PackageVersion: Rev. AP, 11/2009; PackageReference: SOT-23-3-318-08; PackageDescription: 3-Pin Small Outline Transistor, Body 2.92 x 1.3 mm, Pitch 0.95 mm; Supplier 1: Digi-Key; Supplier Part Number 1: MMBD701LT1GOSTR-ND; Supplier 2: Digi-Key; Supplier Part Number 2: MMBD701LT1GOSCT-ND; Supplier 3: Digi-Key; Supplier Part Number 3: MMBD701LT1GOSDKR-ND; Supplier 4: Farnell; Supplier Part Number 4: 1228537; Supplier 5: Newark; Supplier Part Number 5: 88H4777; Supplier 6: Mouser; Supplier Part Number 6: 863-MMBD701LT1G; Packing: Tape and Reel; RoHS: TRUE; Mounting Technology: Surface Mount; ComponentLink1Description: Manufacturer URL; ComponentLink1URL: http://www.onsemi.com/; ComponentLink2Description: Datasheet; ComponentLink2URL: http://www.onsemi.cn/pub_link/Collateral/MBD701-D.PDF; ComponentLink3Description: Package Specification; ComponentLink3URL: http://www.onsemi.cn/pub_link/Collateral/318-08.PDF
footprint ONSC-SOT-23-3-318-08_V (SOT23, 3-Leads, Body 2.92x1.3mm, Pitch 0.95mm)
pins: 1 A, 2 NC, 3 K

## MMBD701LT3
designator D?
Silicon Hot-Carrier Diode, Schottky Barrier Diode, 3-Pin SOT-23, Tape and Reel; Manufacturer: On Semiconductor; PartNumber: MMBD701LT3; Configuration: Single; DatasheetVersion: Rev. 6; PackageVersion: Rev. AP, 11/2009; PackageReference: SOT-23-3-318-08; PackageDescription: 3-Pin Small Outline Transistor, Body 2.92 x 1.3 mm, Pitch 0.95 mm; Supplier 1: Mouser; Supplier Part Number 1: 863-MMBD701LT3; Packing: Tape and Reel; RoHS: FALSE; Mounting Technology: Surface Mount; ComponentLink1Description: Manufacturer URL; ComponentLink1URL: http://www.onsemi.com/; ComponentLink2Description: Datasheet; ComponentLink2URL: http://www.onsemi.cn/pub_link/Collateral/MBD701-D.PDF; ComponentLink3Description: Package Specification; ComponentLink3URL: http://www.onsemi.cn/pub_link/Collateral/318-08.PDF
footprint ONSC-SOT-23-3-318-08_V (SOT23, 3-Leads, Body 2.92x1.3mm, Pitch 0.95mm)
pins: 1 A, 2 NC, 3 K

## MMBD701LT3G
designator D?
Silicon Hot-Carrier Diode, Schottky Barrier Diode, 3-Pin SOT-23, Pb-Free, Tape and Reel; Manufacturer: On Semiconductor; PartNumber: MMBD701LT3G; Configuration: Single; DatasheetVersion: Rev. 6; PackageVersion: Rev. AP, 11/2009; PackageReference: SOT-23-3-318-08; PackageDescription: 3-Pin Small Outline Transistor, Body 2.92 x 1.3 mm, Pitch 0.95 mm; Supplier 1: Digi-Key; Supplier Part Number 1: MMBD701LT3G-ND; Supplier 2: Mouser; Supplier Part Number 2: N/A; Packing: Tape and Reel; RoHS: TRUE; Mounting Technology: Surface Mount; ComponentLink1Description: Manufacturer URL; ComponentLink1URL: http://www.onsemi.com/; ComponentLink2Description: Datasheet; ComponentLink2URL: http://www.onsemi.cn/pub_link/Collateral/MBD701-D.PDF; ComponentLink3Description: Package Specification; ComponentLink3URL: http://www.onsemi.cn/pub_link/Collateral/318-08.PDF
footprint ONSC-SOT-23-3-318-08_V (SOT23, 3-Leads, Body 2.92x1.3mm, Pitch 0.95mm)
pins: 1 A, 2 NC, 3 K

## MMBD717LT1
designator D?
Common Anode Schottky Barrier Diodes, 3-Pin SOT-323, Tape and Reel; Manufacturer: On Semiconductor; PartNumber: MMBD717LT1; DatasheetVersion: Rev. 9; PackageVersion: Rev. N, 11/2008; PackageReference: SOT-323-3-419-04; PackageDescription: 3-Pin Small Outline Transistor, Body 2 x 1.25 mm, Pitch 0.65 mm; Supplier 1: Digi-Key; Supplier Part Number 1: MMBD717LT1OSCT-ND; Configuration: Common Anode; Packing: Tape and Reel; RoHS: FALSE; Mounting Technology: Surface Mount; ComponentLink1Description: Manufacturer URL; ComponentLink1URL: http://www.onsemi.com/; ComponentLink2Description: Datasheet; ComponentLink2URL: http://www.onsemi.cn/pub_link/Collateral/MMBD717LT1-D.PDF; ComponentLink3Description: Package Specification; ComponentLink3URL: http://www.onsemi.com/pub_link/Collateral/419-04.PDF
footprint ONSC-SOT-323-3-419-04_V (SOT23, 3-Leads, Body 2x1.25mm, Pitch 0.65mm)
pins: 1 K1, 2 K2, 3 A

## MMBD717LT1G
designator D?
Common Anode Schottky Barrier Diodes, 3-Pin SOT-323, Pb-Free, Tape and Reel; Manufacturer: On Semiconductor; PartNumber: MMBD717LT1G; DatasheetVersion: Rev. 9; PackageVersion: Rev. N, 11/2008; PackageReference: SOT-323-3-419-04; PackageDescription: 3-Pin Small Outline Transistor, Body 2 x 1.25 mm, Pitch 0.65 mm; Supplier 1: Digi-Key; Supplier Part Number 1: MMBD717LT1GOSTR-ND; Supplier 2: Digi-Key; Supplier Part Number 2: MMBD717LT1GOSCT-ND; Supplier 3: Digi-Key; Supplier Part Number 3: MMBD717LT1GOSDKR-ND; Supplier 4: Farnell; Supplier Part Number 4: 1887079; Supplier 5: Newark; Supplier Part Number 5: 09R9445; Supplier 6: Mouser; Supplier Part Number 6: 863-MMBD717LT1G; Configuration: Common Anode; Packing: Tape and Reel; RoHS: TRUE; Mounting Technology: Surface Mount; ComponentLink1Description: Manufacturer URL; ComponentLink1URL: http://www.onsemi.com/; ComponentLink2Description: Datasheet; ComponentLink2URL: http://www.onsemi.cn/pub_link/Collateral/MMBD717LT1-D.PDF; ComponentLink3Description: Package Specification; ComponentLink3URL: http://www.onsemi.com/pub_link/Collateral/419-04.PDF
footprint ONSC-SOT-323-3-419-04_V (SOT23, 3-Leads, Body 2x1.25mm, Pitch 0.65mm)
pins: 1 K1, 2 K2, 3 A

## MMBD770T1
designator D?
Schottky Barrier Diode, 3-Pin SOT-323, Tape and Reel; Manufacturer: On Semiconductor; PartNumber: MMBD770T1; Configuration: Single; IFSM Max (A): 1; DatasheetVersion: Rev. 6; PackageVersion: Rev. N, 11/2008; PackageReference: SOT-323-3-419-04; PackageDescription: 3-Pin Small Outline Transistor, Body 2 x 1.25 mm, Pitch 0.65 mm; Supplier 1: Digi-Key; Supplier Part Number 1: MMBD770T1-ND; Packing: Tape and Reel; RoHS: FALSE; Mounting Technology: Surface Mount; ComponentLink1Description: Manufacturer URL; ComponentLink1URL: http://www.onsemi.com/; ComponentLink2Description: Datasheet; ComponentLink2URL: http://www.onsemi.com/pub_link/Collateral/MMBD330T1-D.PDF; ComponentLink3Description: Package Specification; ComponentLink3URL: http://www.onsemi.com/pub_link/Collateral/419-04.PDF
footprint ONSC-SOT-323-3-419-04_V (SOT23, 3-Leads, Body 2x1.25mm, Pitch 0.65mm)
pins: 1 A, 2 NC, 3 K

## MMBD770T1G
designator D?
Schottky Barrier Diode, 3-Pin SOT-323, Pb-Free, Tape and Reel; Manufacturer: On Semiconductor; PartNumber: MMBD770T1G; Configuration: Single; IFSM Max (A): 1; DatasheetVersion: Rev. 6; PackageVersion: Rev. N, 11/2008; PackageReference: SOT-323-3-419-04; PackageDescription: 3-Pin Small Outline Transistor, Body 2 x 1.25 mm, Pitch 0.65 mm; Supplier 1: Digi-Key; Supplier Part Number 1: MMBD770T1GOSTR-ND; Supplier 2: Digi-Key; Supplier Part Number 2: MMBD770T1GOSCT-ND; Supplier 3: Digi-Key; Supplier Part Number 3: MMBD770T1GOSDKR-ND; Supplier 4: Newark; Supplier Part Number 4: 26K4534; Supplier 5: Mouser; Supplier Part Number 5: 863-MMBD770T1G; Packing: Tape and Reel; RoHS: TRUE; Mounting Technology: Surface Mount; ComponentLink1Description: Manufacturer URL; ComponentLink1URL: http://www.onsemi.com/; ComponentLink2Description: Datasheet; ComponentLink2URL: http://www.onsemi.com/pub_link/Collateral/MMBD330T1-D.PDF; ComponentLink3Description: Package Specification; ComponentLink3URL: http://www.onsemi.com/pub_link/Collateral/419-04.PDF
footprint ONSC-SOT-323-3-419-04_V (SOT23, 3-Leads, Body 2x1.25mm, Pitch 0.65mm)
pins: 1 A, 2 NC, 3 K

## MMDL101T1
designator D?
Schottky Barrier Diode, 2-Pin SOD-323, Tape and Reel; Manufacturer: On Semiconductor; PartNumber: MMDL101T1; Configuration: Single; DatasheetVersion: Rev. 2; PackageVersion: Rev. H, 03/2007; PackageReference: SOD-323-2-477-02; PackageDescription: 2-Pin SOD, Body 1.7 x 1.25 mm; Supplier 1: Digi-Key; Supplier Part Number 1: MMDL101T1-ND; Packing: Tape and Reel; RoHS: FALSE; Mounting Technology: Surface Mount; ComponentLink1Description: Manufacturer URL; ComponentLink1URL: http://www.onsemi.com/; ComponentLink2Description: Datasheet; ComponentLink2URL: http://www.onsemi.cn/pub_link/Collateral/MMDL101T1-D.PDF; ComponentLink3Description: Package Specification; ComponentLink3URL: http://www.onsemi.com/pub_link/Collateral/477-02.PDF.1
footprint ONSC-SOD-323-2-477-02_V (SOD, 2-Leads, Body 1.7x1.25mm)
pins: 1 K, 2 A

## MMDL101T1G
designator D?
Schottky Barrier Diode, 2-Pin SOD-323, Pb-Free, Tape and Reel; Manufacturer: On Semiconductor; PartNumber: MMDL101T1G; Configuration: Single; DatasheetVersion: Rev. 2; PackageVersion: Rev. H, 03/2007; PackageReference: SOD-323-2-477-02; PackageDescription: 2-Pin SOD, Body 1.7 x 1.25 mm; Supplier 1: Digi-Key; Supplier Part Number 1: MMDL101T1G-ND; Supplier 2: Newark; Supplier Part Number 2: 26K4555; Supplier 3: Mouser; Supplier Part Number 3: 863-MMDL101T1G; Packing: Tape and Reel; RoHS: TRUE; Mounting Technology: Surface Mount; ComponentLink1Description: Manufacturer URL; ComponentLink1URL: http://www.onsemi.com/; ComponentLink2Description: Datasheet; ComponentLink2URL: http://www.onsemi.cn/pub_link/Collateral/MMDL101T1-D.PDF; ComponentLink3Description: Package Specification; ComponentLink3URL: http://www.onsemi.com/pub_link/Collateral/477-02.PDF.1
footprint ONSC-SOD-323-2-477-02_V (SOD, 2-Leads, Body 1.7x1.25mm)
pins: 1 K, 2 A

## MMDL301T1
designator D?
Silicon Hot-Carrier Diode, Schottky Barrier Diode, 2-Pin SOD-323, Tape and Reel; Manufacturer: On Semiconductor; PartNumber: MMDL301T1; Configuration: Single; DatasheetVersion: Rev. 2; PackageVersion: Rev. H, 03/2007; PackageReference: SOD-323-2-477-02; PackageDescription: 2-Pin SOD, Body 1.7 x 1.25 mm; Supplier 1: Digi-Key; Supplier Part Number 1: MMDL301T1-ND; Packing: Tape and Reel; RoHS: FALSE; Mounting Technology: Surface Mount; ComponentLink1Description: Manufacturer URL; ComponentLink1URL: http://www.onsemi.com/; ComponentLink2Description: Datasheet; ComponentLink2URL: http://www.onsemi.cn/pub_link/Collateral/MMDL301T1-D.PDF; ComponentLink3Description: Package Specification; ComponentLink3URL: http://www.onsemi.com/pub_link/Collateral/477-02.PDF.1
footprint ONSC-SOD-323-2-477-02_V (SOD, 2-Leads, Body 1.7x1.25mm)
pins: 1 K, 2 A

## MMDL301T1G
designator D?
Silicon Hot-Carrier Diode, Schottky Barrier Diode, 2-Pin SOD-323, Pb-Free, Tape and Reel; Manufacturer: On Semiconductor; PartNumber: MMDL301T1G; Configuration: Single; DatasheetVersion: Rev. 2; PackageVersion: Rev. H, 03/2007; PackageReference: SOD-323-2-477-02; PackageDescription: 2-Pin SOD, Body 1.7 x 1.25 mm; Supplier 1: Digi-Key; Supplier Part Number 1: MMDL301T1GOSTR-ND; Supplier 2: Digi-Key; Supplier Part Number 2: MMDL301T1GOSCT-ND; Supplier 3: Digi-Key; Supplier Part Number 3: MMDL301T1GOSDKR-ND; Supplier 4: Farnell; Supplier Part Number 4: 1136842; Supplier 5: Newark; Supplier Part Number 5: 98H0800; Supplier 6: Mouser; Supplier Part Number 6: 863-MMDL301T1G; Packing: Tape and Reel; RoHS: TRUE; Mounting Technology: Surface Mount; ComponentLink1Description: Manufacturer URL; ComponentLink1URL: http://www.onsemi.com/; ComponentLink2Description: Datasheet; ComponentLink2URL: http://www.onsemi.cn/pub_link/Collateral/MMDL301T1-D.PDF; ComponentLink3Description: Package Specification; ComponentLink3URL: http://www.onsemi.com/pub_link/Collateral/477-02.PDF.1
footprint ONSC-SOD-323-2-477-02_V (SOD, 2-Leads, Body 1.7x1.25mm)
pins: 1 K, 2 A

## MMDL770T1
designator D?
Schottky Barrier Diode, 2-Pin SOD-323, Tape and Reel; Manufacturer: On Semiconductor; PartNumber: MMDL770T1; Note: 0; Configuration: Single; DatasheetVersion: Rev. 3; PackageVersion: Rev. H, 03/2007; PackageReference: SOD-323-2-477-02; PackageDescription: 2-Pin SOD, Body 1.7 x 1.25 mm; Packing: Tape and Reel; RoHS: FALSE; Mounting Technology: Surface Mount; ComponentLink1Description: Manufacturer URL; ComponentLink1URL: http://www.onsemi.com/; ComponentLink2Description: Datasheet; ComponentLink2URL: http://www.onsemi.cn/pub_link/Collateral/MMDL770T1-D.PDF; ComponentLink3Description: Package Specification; ComponentLink3URL: http://www.onsemi.com/pub_link/Collateral/477-02.PDF.1
footprint ONSC-SOD-323-2-477-02_V (SOD, 2-Leads, Body 1.7x1.25mm)
pins: 1 K, 2 A